# EAGLE library part CPL-WBF-00D3 (library GTA04b7)
Wide band directional coupler with ISO port
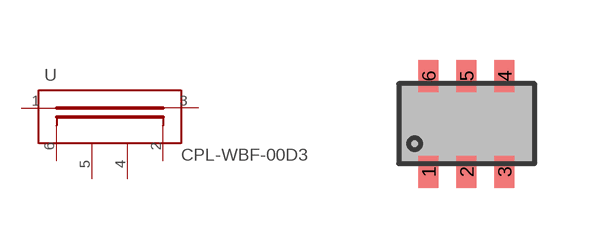
[diagram p11: symbol with the pads of SOT23-6; footprint SOT23-6]

Designator prefix -

## CPL-WBF-00D3-WRONGPACK  [SOT23-6]
1  IN  pas
2  ISO  pas
3  OUT  pas
4  GND  pwr
5  GND  pwr
6  CPL  pas

## Footprint SOT23-6 (pad centres in mm)
SOT23 with 6 pins
smd 0.5 x 0.8: 1 -0.95,-1.2; 2 0,-1.2; 3 0.95,-1.2; 4 0.95,1.2; 5 0,1.2; 6 -0.95,1.2